# EAGLE library part GY-521 (library FansElectronics-Modul)
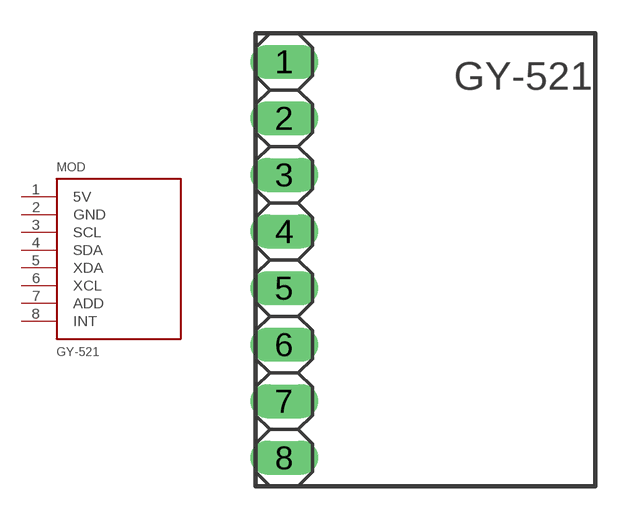
[diagram p30: symbol with the pads of GY-521; footprint GY-521]

Designator prefix MOD

## GY-521  [GY-521]
1  5V  pwr
2  GND  pwr
3  SCL
4  SDA
5  XDA
6  XCL
7  ADD
8  INT

## Footprint GY-521 (pad centres in mm)
drill 1.016 long: 1 0,8.89; 2 0,6.35; 3 0,3.81; 4 0,1.27; 5 0,-1.27; 6 0,-3.81; 7 0,-6.35; 8 0,-8.89